# Altium schematic symbol library Passive.SchLib: 7 symbols
Pins are listed as number, name and electrical type; pins without a type are passive.

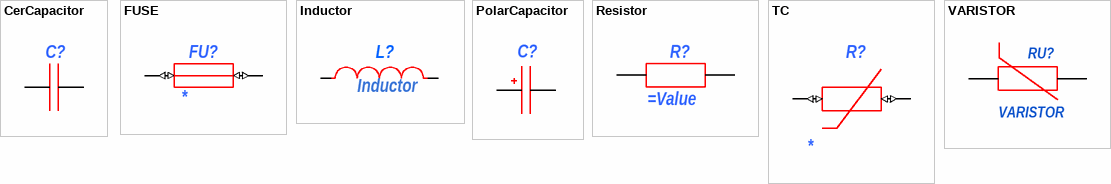
[diagram p0: symbols CerCapacitor to VARISTOR]

## CerCapacitor
designator C?
Неполярный конденсатор
pins: 1, 2

## FUSE
designator FU?
ManufacturerPartNumber: *; Tolerance: *; Value: *; manufacturer: *; Rem: *; Примечание: *; Корпус: *; TKE: *; Power/Voltage: *; Type: *
pins: 1 (io), 2 (io)

## Inductor
designator L?
Индуктивность постоянная без сердечника; ManufacturerPartNumber: EC24 - 100K; ComponentLink1Description: *; ComponentLink1URL: *; ComponentLink2Description: *; ComponentLink2URL: *; Manufacturer: *; Power\Voltage: *; Rem: *; TKE: *; Tolerance: *; TU/GOST: *; Корпус: *; Примечание: *; Value: *; Author: *; Type: *
footprint EC24-101K_TH
footprint B82464G4223M
footprint 0603
footprint Inductor_D=9
footprint LQH3NPN4R7MJRL
footprint B82477G4224M
footprint SLF7_TDK
pins: 1, 2

## PolarCapacitor
designator C?  (value not drawn)
Полярный конденсатор
pins: 1, 2

## Resistor
designator R?
Резистор
pins: 1, 2

## TC
designator R?
Термистор NTC; ManufacturerPartNumber: B57235-S 509-M; ComponentLink1Description: *; ComponentLink1URL: *; ComponentLink2Description: *; ComponentLink2URL: *; Power/Voltage: *; Rem: *; TKE: *; Tolerance: *; TU/GOST: *; Value: *; Корпус: *; Примечание: *; Manufacturer: *; Author: *; Type: *
pins: 1 (io), 2 (io)

## VARISTOR
designator RU?
ManufacturerPartNumber: *
footprint VARISTOR D=14mm
pins: 1, 2